# Altium footprint library Capacitor Tantalum Radial Bead.PcbLib: 37 footprints (part 1 of 3)
Each footprint in its own frame and in the unit in brackets; x right, y up, seen from the top. Pads: shape width x height; smd on the part's side, far side on the other; paste and mask are expansions set on the pad; w line width, h text height; cw(c..) or ccw(c..) is an arc to the next point about the centre after c.
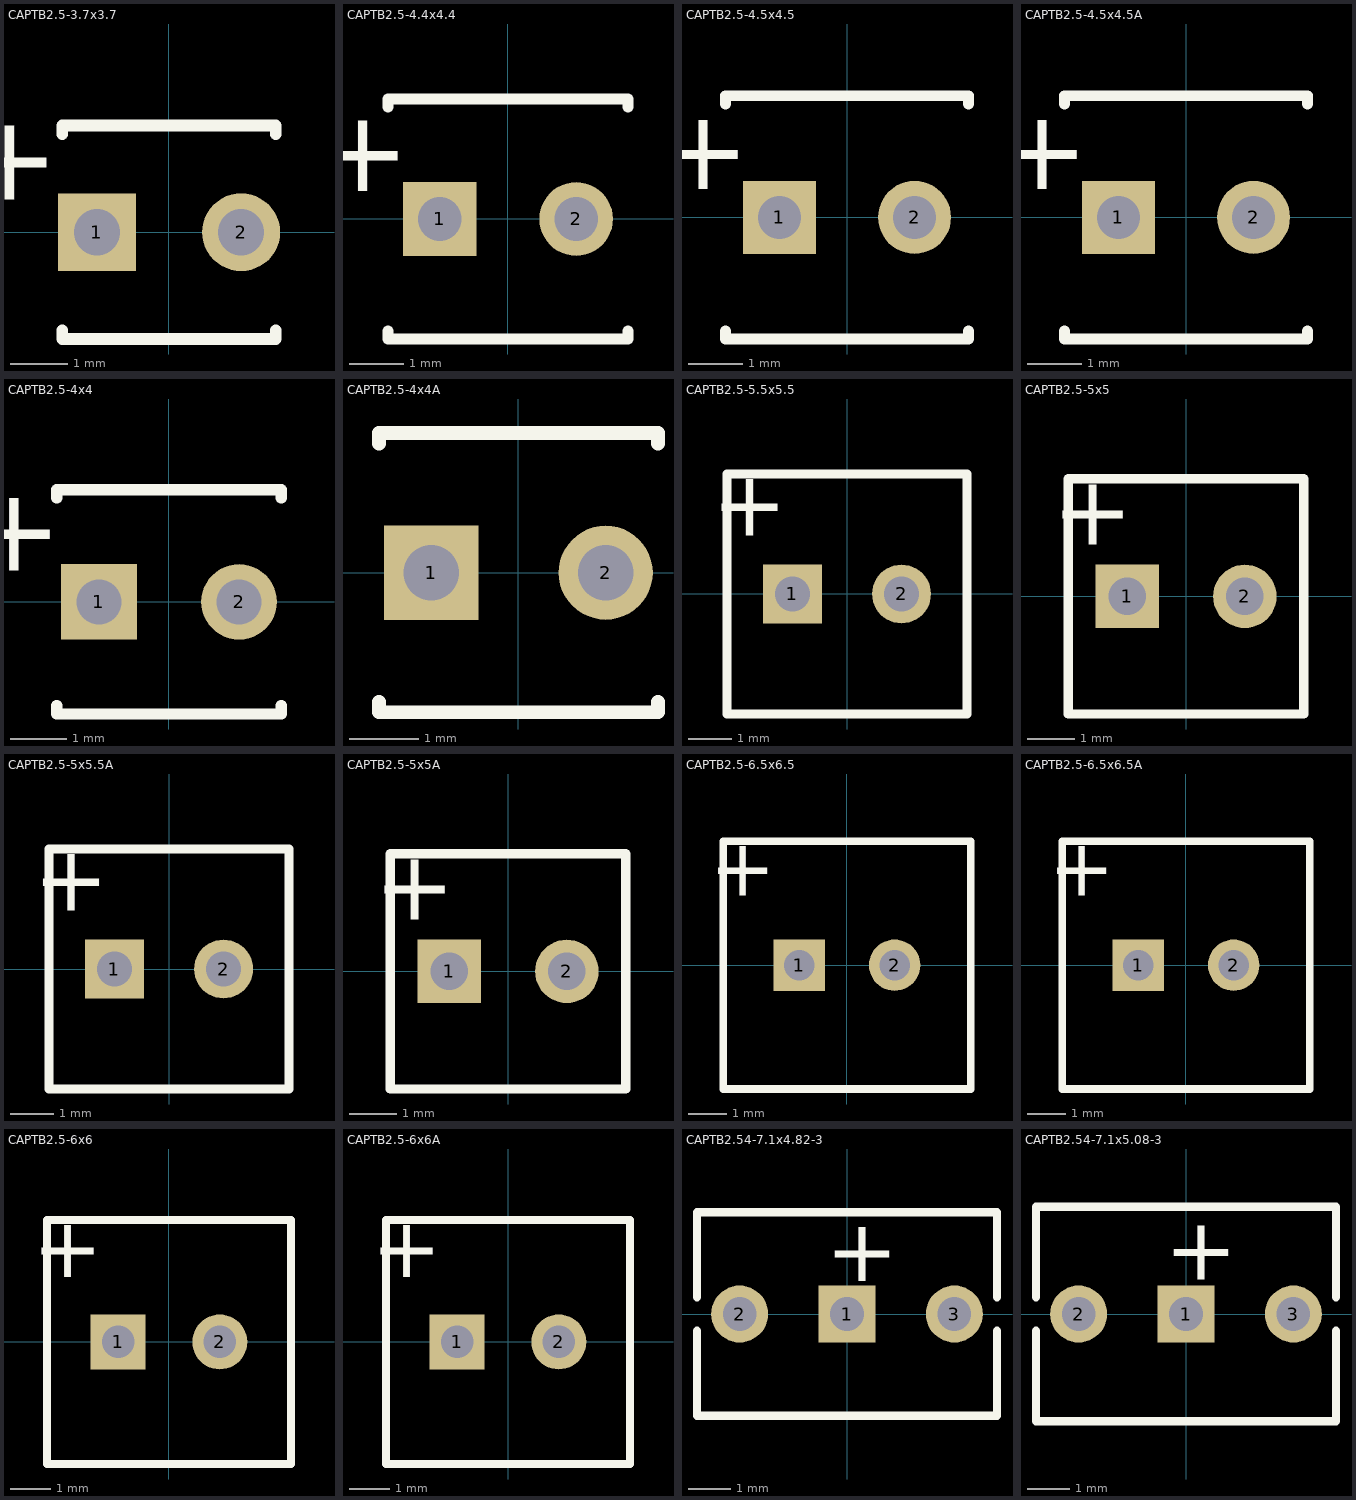
[diagram p0: the footprints below, top view; thin cyan lines are the x and y axes]

## CAPTB2.5-3.7x3.7 [mm] "Capacitor, Tantalum Bead; Body 3.7 x 7 mm (Dia.xH max); Pin Spacing 2.5 mm (typ)"
height 7
pads (2):
  rect 1.35x1.35 hole 0.8: 1(-1.249,0.001)
  round 1.35 hole 0.8: 2(1.251,0.001)
Top Overlay:
  lines w0.2: -1.849,-1.699 -1.849,-1.849 1.851,-1.849 1.851,-1.699 ; -1.849,1.701 -1.849,1.851 1.851,1.851 1.851,1.701
  text "+" at -1.9,1.85 h1.5

## CAPTB2.5-4.4x4.4 [mm] "Capacitor, Tantalum Bead; Body 4.4 x 7.11 mm (Dia.xH max); Pin Spacing 2.5 mm (typ)"
height 7.11
pads (2):
  rect 1.35x1.35 hole 0.8: 1(-1.25,0)
  round 1.35 hole 0.8: 2(1.25,0)
Top Overlay:
  lines w0.2: -2.2,-2.05 -2.2,-2.2 2.2,-2.2 2.2,-2.05 ; -2.2,2.05 -2.2,2.2 2.2,2.2 2.2,2.05
  text "+" at -1.8,1.8 h1.5

## CAPTB2.5-4.5x4.5 [mm] "Capacitor, Tantalum Bead; Body 4.5 x 8 mm (Dia.xH max); Pin Spacing 2.5 mm (typ)"
height 8
pads (2):
  rect 1.35x1.35 hole 0.8: 1(-1.25,0)
  round 1.35 hole 0.8: 2(1.25,0)
Top Overlay:
  lines w0.2: -2.25,-2.1 -2.25,-2.25 2.25,-2.25 2.25,-2.1 ; -2.25,2.1 -2.25,2.25 2.25,2.25 2.25,2.1
  text "+" at -1.8,1.8 h1.5

## CAPTB2.5-4.5x4.5A [mm] "Capacitor, Tantalum Bead; Body 4.5 x 8 mm (Dia.xH max); Pin Spacing 2.5 mm (typ)"
height 8
pads (2):
  rect 1.35x1.35 hole 0.8: 1(-1.25,0)
  round 1.35 hole 0.8: 2(1.25,0)
Top Overlay:
  lines w0.2: -2.25,-2.1 -2.25,-2.25 2.25,-2.25 2.25,-2.1 ; -2.25,2.1 -2.25,2.25 2.25,2.25 2.25,2.1
  text "+" at -1.8,1.8 h1.5

## CAPTB2.5-4x4 [mm] "Capacitor, Tantalum Bead; Body 4 x 7.5 mm (Dia.xH max); Pin Spacing 2.5 mm (typ)"
height 7.5
pads (2):
  rect 1.35x1.35 hole 0.8: 1(-1.25,0)
  round 1.35 hole 0.8: 2(1.25,0)
Top Overlay:
  lines w0.2: -2,-1.85 -2,-2 2,-2 2,-1.85 ; -2,1.85 -2,2 2,2 2,1.85
  text "+" at -1.9,1.85 h1.5

## CAPTB2.5-4x4A [mm] "Capacitor, Tantalum Bead; Body 4 x 7.1 mm (Dia.xH max); Pin Spacing 2.5 mm (typ)"
height 7.1
pads (2):
  rect 1.35x1.35 hole 0.8: 1(-1.25,0)
  round 1.35 hole 0.8: 2(1.25,0)
Top Overlay:
  lines w0.2: -2,-1.85 -2,-2 2,-2 2,-1.85 ; -2,1.85 -2,2 2,2 2,1.85
  text "+" at -2.3,0.75 h1.5

## CAPTB2.5-5.5x5.5 [mm] "Capacitor, Tantalum Bead; Body 5.5 x 9.14 mm (Dia.xH max); Pin Spacing 2.5 mm (typ)"
height 9.14
pads (2):
  rect 1.35x1.35 hole 0.8: 1(-1.25,0)
  round 1.35 hole 0.8: 2(1.25,0)
Top Overlay:
  lines w0.2: -2.75,-2.75 -2.75,2.75 2.75,2.75 2.75,-2.75 -2.75,-2.75
  text "+" at -1.375,2.625 h1.5

## CAPTB2.5-5x5 [mm] "Capacitor, Tantalum Bead; Body 5 x 9 mm (Dia.xH max); Pin Spacing 2.5 mm (typ)"
height 9
pads (2):
  rect 1.35x1.35 hole 0.8: 1(-1.25,0)
  round 1.35 hole 0.8: 2(1.25,0)
Top Overlay:
  lines w0.2: -2.5,2.5 2.5,2.5 2.5,-2.5 -2.5,-2.5 -2.5,2.5
  text "+" at -1.126,2.375 h1.5

## CAPTB2.5-5x5.5A [mm] "Capacitor, Tantalum Bead; Body 5.5 x 10 mm (Dia.xH max); Pin Spacing 2.5 mm (typ)"
height 10
pads (2):
  rect 1.35x1.35 hole 0.8: 1(-1.25,0)
  round 1.35 hole 0.8: 2(1.25,0)
Top Overlay:
  lines w0.2: -2.75,-2.75 2.75,-2.75 2.75,2.75 -2.75,2.75 -2.75,-2.75
  text "+" at -1.375,2.625 h1.5

## CAPTB2.5-5x5A [mm] "Capacitor, Tantalum Bead; Body 5 x 9.5 mm (Dia.xH max); Pin Spacing 2.5 mm (typ)"
height 9.5
pads (2):
  rect 1.35x1.35 hole 0.8: 1(-1.25,0)
  round 1.35 hole 0.8: 2(1.25,0)
Top Overlay:
  lines w0.2: -2.5,-2.5 2.5,-2.5 2.5,2.5 -2.5,2.5 -2.5,-2.5
  text "+" at -1.126,2.375 h1.5

## CAPTB2.5-6.5x6.5 [mm] "Capacitor, Tantalum Bead; Body 6.5 x 12 mm (Dia.xH max); Pin Spacing 2.5 mm (typ)"
height 12
pads (2):
  rect 1.35x1.35 hole 0.8: 1(-1.25,0)
  round 1.35 hole 0.8: 2(1.25,0)
Top Overlay:
  lines w0.2: -3.25,-3.25 -3.25,3.25 3.25,3.25 3.25,-3.25 -3.25,-3.25
  text "+" at -1.875,3.125 h1.5

## CAPTB2.5-6.5x6.5A [mm] "Capacitor, Tantalum Bead; Body 6.5 x 11.5 mm (Dia.xH max); Pin Spacing 2.5 mm (typ)"
height 11.5
pads (2):
  rect 1.35x1.35 hole 0.8: 1(-1.25,0)
  round 1.35 hole 0.8: 2(1.25,0)
Top Overlay:
  lines w0.2: -3.25,-3.25 -3.25,3.25 3.25,3.25 3.25,-3.25 -3.25,-3.25
  text "+" at -1.875,3.125 h1.5

## CAPTB2.5-6x6 [mm] "Capacitor, Tantalum Bead; Body 6 x 10.16 mm (Dia.xH max); Pin Spacing 2.5 mm (typ)"
height 10.16
pads (2):
  rect 1.35x1.35 hole 0.8: 1(-1.25,0)
  round 1.35 hole 0.8: 2(1.25,0)
Top Overlay:
  lines w0.2: -3,-3 -3,3 3,3 3,-3 -3,-3
  text "+" at -1.625,2.875 h1.5

## CAPTB2.5-6x6A [mm] "Capacitor, Tantalum Bead; Body 6 x 10 mm (Dia.xH max); Pin Spacing 2.5 mm (typ)"
height 10
pads (2):
  rect 1.35x1.35 hole 0.8: 1(-1.25,0)
  round 1.35 hole 0.8: 2(1.25,0)
Top Overlay:
  lines w0.2: -3,-3 3,-3 3,3 -3,3 -3,-3
  text "+" at -1.625,2.875 h1.5

## CAPTB2.54-7.1x4.82-3 [mm]
pads (3):
  rect 1.35x1.35 hole 0.8: 1(0,0)
  round 1.35 hole 0.8: 2(-2.54,0) 3(2.54,0)
Top Overlay:
  lines w0.2: -3.55,-0.4 -3.55,-2.41 3.55,-2.41 3.55,-0.4 ; -3.55,0.4 -3.55,2.41 3.55,2.41 3.55,0.4
  text "+" at -0.5,0.778 h1.5

## CAPTB2.54-7.1x5.08-3 [mm]
pads (3):
  rect 1.35x1.35 hole 0.8: 1(0,0)
  round 1.35 hole 0.8: 2(-2.54,0) 3(2.54,0)
Top Overlay:
  lines w0.2: -3.55,-0.4 -3.55,-2.54 3.55,-2.54 3.55,-0.4 ; -3.55,0.4 -3.55,2.54 3.55,2.54 3.55,0.4
  text "+" at -0.5,0.81 h1.5